# EAGLE library part 6861XX14122_68611114122 (library Wurth_Connectors_WR-FPC)
WR-FPC 1.00 mm SMT ZIF Horizontal Top Contact KIND PROPERTIES Pitch 1 mm MATERIAL PROPERTIES Insulator Material PPS Contact Material Phosphor Bronze Contact Plating 100 (µ") Tin over 50 (µ") Nickel Contact Type Stamped <https://www.we-online.com/catalog/media/o33098v209%20Family_WR-FPC_68610414122.jpg> Details see: https://www.we-online.com/catalog/en/FPC_1_00_SMT_ZIF_HORIZONTAL_TOP_CONTACT_6861XX14122/ Updated by Ella Wu 2021-07-19 2021(C) Wurth Elektronik
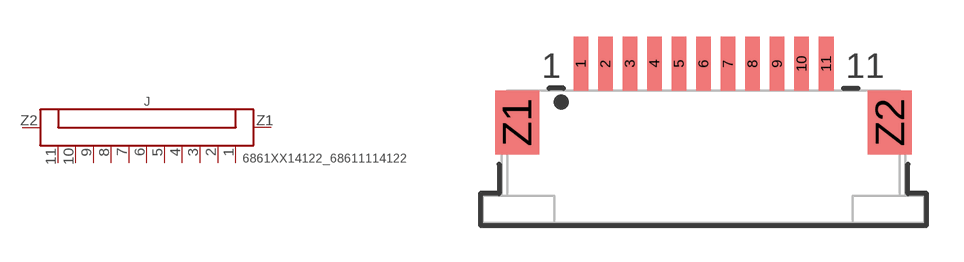
[diagram p214: symbol with the pads of 68611114122; footprint 68611114122]

Designator prefix J

## 6861XX14122_68611114122 (CONTACT-RESISTANCE: 20mOhm; DATASHEET-URL: https://www.we-online.com/catalog/datasheet/68611114122.pdf; IR: 1A; L: 18mm; MATE-WITH: WR-FFC 1.00 mm Flat Flexible Cable Type 1 (Contacts on same side)/ Type 2 (Contacts opposite); PACKAGING: Tape and Reel; PART-NUMBER: 68611114122; PINS: 11; PITCH: 1mm; TYPE: Horizontal; VALUE: 68611114122; WORKING-VOLTAGE: 125V(AC))  [68611114122]
1  1  pas
2  2  pas
3  3  pas
4  4  pas
5  5  pas
6  6  pas
7  7  pas
8  8  pas
9  9  pas
10  10  pas
11  11  pas
Z1  Z1  pas
Z2  Z2  pas

## Footprint 68611114122 (pad centres in mm)
WR-FPC 1.00 mm SMT ZIF Horizontal Top Contact,11 Pins
smd 0.6 x 2.2: 1 -5,3.8; 2 -4,3.8; 3 -3,3.8; 4 -2,3.8; 5 -1,3.8; 6 0,3.8; 7 1,3.8; 8 2,3.8; 9 3,3.8; 10 4,3.8; 11 5,3.8
smd 1.8 x 2.6: Z1 -7.6,1.4; Z2 7.6,1.4